# Altium footprint library TC124.PcbLib: 1 footprints
Each footprint in its own frame and in the unit in brackets; x right, y up, seen from the top. Pads: shape width x height; smd on the part's side, far side on the other; paste and mask are expansions set on the pad; w line width, h text height; cw(c..) or ccw(c..) is an arc to the next point about the centre after c.
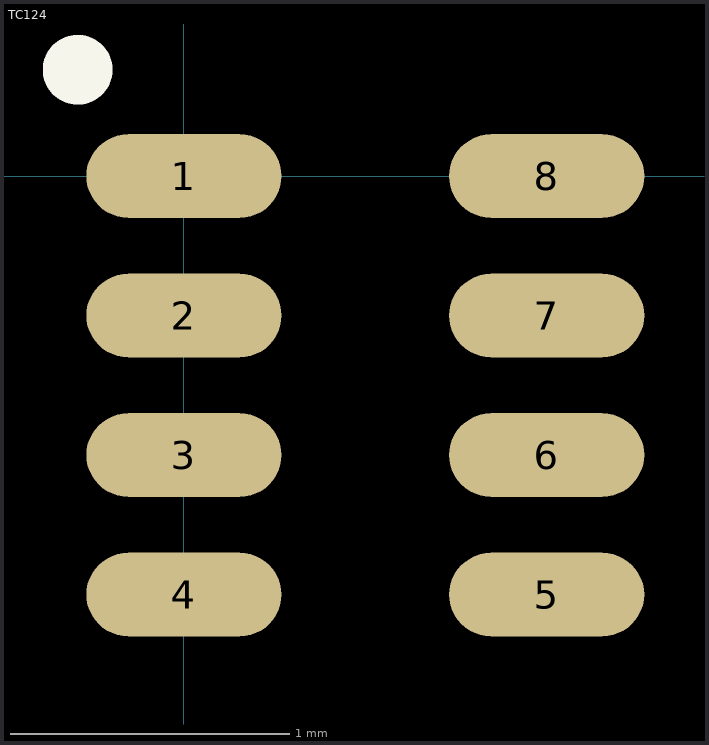
[diagram p0: the footprint, top view; thin cyan lines are the x and y axes]

## TC124 [mm] "Chip Array, Concave, 8-Leads, Pitch 0,50mm,  Body 2,00x1,00mm,  IPC Medium Density"
height 0.5
pads (8):
  oval 0.7x0.3 smd: 1(0,0) 2(0,-0.5) 3(0,-1) 4(0,-1.5) 5(1.3,-1.5) 6(1.3,-1) 7(1.3,-0.5) 8(1.3,0)
Top Overlay:
  circle w0.15: c-0.381,0.381 r0.05
3D body "TC124.step": height 0.4, standoff 0, extent 0.135,-1.762 1.135,0.238